# Altium schematic symbol library RF_Transformer.SchLib: 11 symbols
Pins are listed as number, name and electrical type; pins without a type are passive.

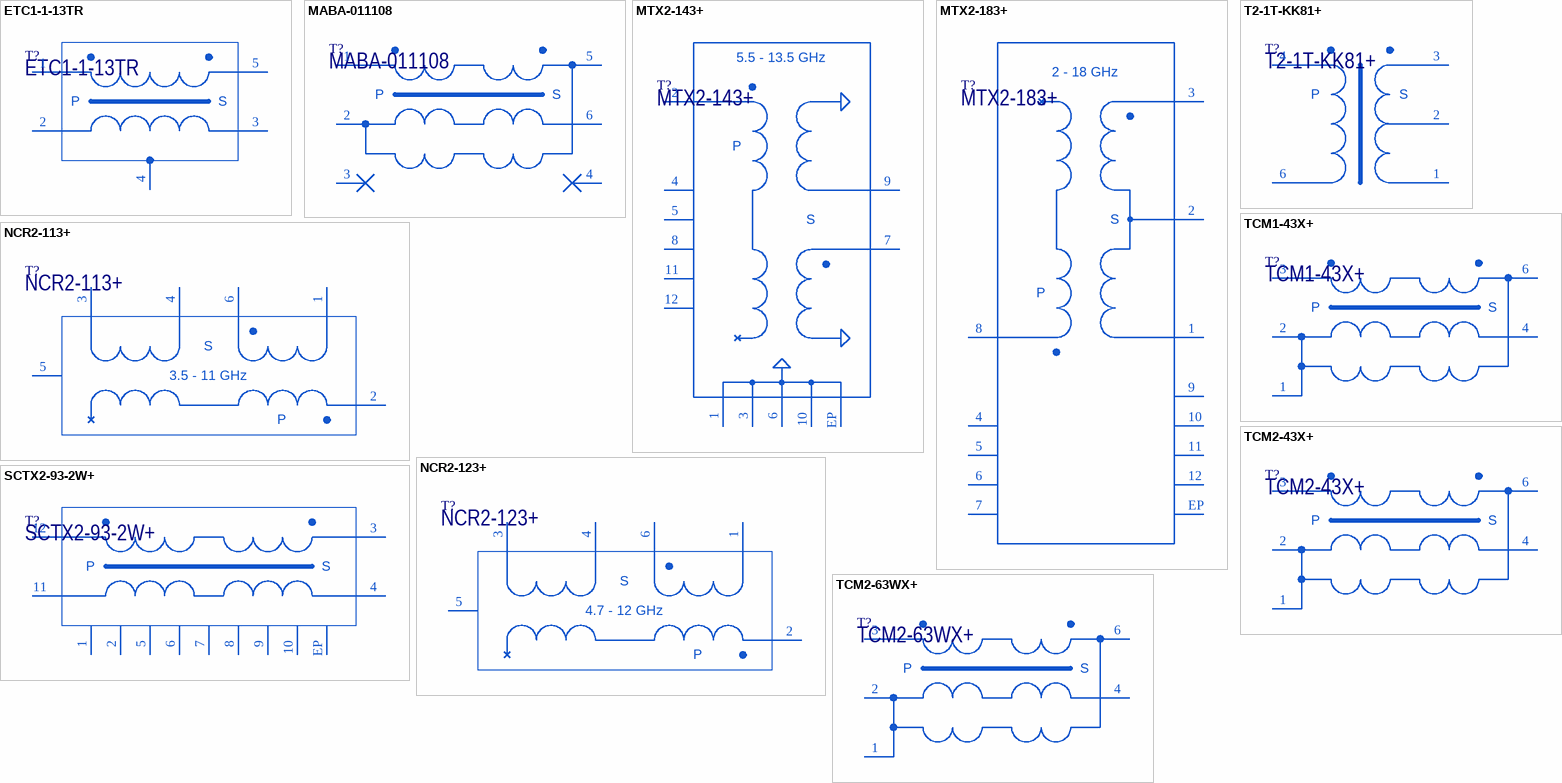
[diagram p0: symbols ETC1-1-13TR to TCM2-63WX+]

## ETC1-1-13TR
designator T?
50Ω RF Transformer 1:1 4.5 to 3000 MHz; Manufacturer: Macom; PartNumber: ETC1-1-13TR; Package: ETC-1-13; ItemType: Transformer; ItemSubType: RF; Mounting: SMD
footprint ETC1-1-13 (RF Transformer ETC1-1-13)
pins: 1 PrimaryDot, 2 Primary, 3 Secondary, 4 GND, 5 SecondaryDot
text: P; S

## MABA-011108
designator T?
1:1 50Ω RF Transformer 5 to 10000 MHz; Manufacturer: Macom; PartNumber: MABA-011108; ItemType: Transformer; ItemSubType: RF; Mounting: SMD
footprint MABA-011108
pins: 1 PrimaryDot, 2 Primary, 3 GND_RF, 4 GND_RF, 5 Secondary, 6 SecondaryDot
text: P; S

## MTX2-143+
designator T?
50Ω MMIC Balun 5.5 GHz to 13.5 GHz; Manufacturer: Mini-Circuits; ItemType: Transformer; ItemSubType: RF; PartNumber: MTX2-143+; Package: DQ1225; Mounting: SMD
footprint DQ1225 (Minicircuits DQ1225 case style)
pins: 1 GND, 2 PrimaryDot, 3 GND, 4 NC, 5 NC, 6 GND, 7 SecondaryDot, 8 NC, 9 Secondary, 10 GND, 11 NC, 12 NC, EP GND
text: 5.5 - 13.5 GHz; P; S

## MTX2-183+
designator T?
50Ω MMIC Balun 2 GHz to 18 GHz; Manufacturer: Mini-Circuits; ItemType: Transformer; ItemSubType: RF; PartNumber: MTX2-183+; Package: QFN-12; Mounting: SMD
footprint MTX2-183+ (Minicircuits QFN-12, body 3x4mm, putch 0.65mm)
pins: 1 Secondary, 2 GND, 3 SecondaryDot, 4 NC, 5 NC, 6 NC, 7 NC, 8 PrimaryDot, 9 NC, 10 NC, 11 NC, 12 NC, EP GND
text: 2 - 18 GHz; S; P

## NCR2-113+
designator T?
50Ω Ultra Wideband RF Transformer 3.5 GHz to 11 GHz; Manufacturer: Mini-Circuits; PartNumber: NCR2-113+; Package: NF1846-1; ItemType: Transformer; ItemSubType: RF; Mounting: SMD
footprint NF1846-1 (Minicircuits NF1846-1 case style)
pins: 1 GND, 2 PrimaryDot, 3 GND, 4 Secondary, 5 GND, 6 SecondaryDot
text: S; 3.5 - 11 GHz; P

## NCR2-123+
designator T?
50Ω Ultra Wideband RF Transformer 4.7 GHz to 12 GHz; Manufacturer: Mini-Circuits; PartNumber: NCR2-123+; Package: NF1846-1; ItemType: Transformer; ItemSubType: RF; Mounting: SMD
footprint NF1846-1 (Minicircuits NF1846-1 case style)
pins: 1 GND, 2 PrimaryDot, 3 GND, 4 Secondary, 5 GND, 6 SecondaryDot
text: S; 4.7 - 12 GHz; P

## SCTX2-93-2W+
designator T?
50Ω RF Transformer 10 to 9000 MHz 1:2 Ratio; Manufacturer: Mini-Circuits; PartNumber: SCTX2-93-2W+; Package: SN2595; ItemType: Transformer; ItemSubType: RF; Mounting: SMD
footprint SN2595 (Minicircuits SN2595 case style)
pins: 1 GND, 2 GND, 3 SecondaryDot, 4 Secondary, 5 GND, 6 GND, 7 GND, 8 GND, 9 GND, 10 GND, 11 PrimaryGND, 12 PrimaryDot, EP GND
text: P; S

## T2-1T-KK81+
designator T?
50Ω RF Transformer 0.07 to 200 MHz; Manufacturer: Mini-Circuits; PartNumber: T2-1T-KK81+; Package: DB1627; ItemType: Transformer; ItemSubType: RF; Mounting: SMD
footprint KK81 (Minicircuits KK81 case style)
pins: 1 Primary, 2 GND_RF, 3 PrimaryDot, 4 SecondaryDot, 6 Secondary
text: P; S

## TCM1-43X+
designator T?
50Ω RF Transformer 10 to 4000 MHz; Manufacturer: Mini-Circuits; Marking: GH; PartNumber: TCM1-43X+; Package: DB1627; ItemType: Transformer; ItemSubType: RF; Mounting: SMD
footprint DB1627 (Minicircuits DB1627 case style)
pins: 1 Primary, 2 GND_RF, 3 PrimaryDot, 4 SecondaryDot, 6 Secondary
text: P; S

## TCM2-43X+
designator T?
50Ω RF Transformer 10 to 4000 MHz; Manufacturer: Mini-Circuits; PartNumber: TCM2-43X+; Package: DB1627; ItemType: Transformer; ItemSubType: RF; Mounting: SMD
footprint DB1627 (Minicircuits DB1627 case style)
pins: 1 Primary, 2 GND_RF, 3 PrimaryDot, 4 SecondaryDot, 6 Secondary
text: P; S

## TCM2-63WX+
designator T?
50Ω RF Transformer 30 to 6000 MHz; Manufacturer: Mini-Circuits; PartNumber: TCM2-63WX+; Package: DB1627; ItemType: Transformer; ItemSubType: RF; Mounting: SMD
footprint DB1627 (Minicircuits DB1627 case style)
pins: 1 Primary, 2 GND_RF, 3 PrimaryDot, 4 SecondaryDot, 6 Secondary
text: P; S